# Altium schematic symbol library Resistors.SchLib: 6 symbols
Pins are listed as number, name and electrical type; pins without a type are passive.

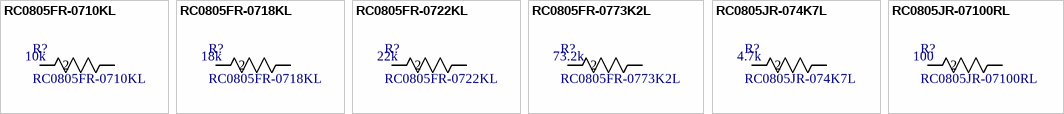
[diagram p0: symbols RC0805FR-0710KL to RC0805JR-07100RL]

## RC0805FR-0710KL
designator R?  value 10k
RES 0805 10k 1% 1/8W; Manufacturer_Name: Yageo; Manufacturer_Part_Number: RC0805FR-0710KL; Tolerance: 1%
footprint RC0805N_YAG
pins: 1, 2

## RC0805FR-0718KL
designator R?  value 18k
RES 0805 18k 1% 1/8W; Manufacturer_Name: Yageo; Manufacturer_Part_Number: RC0805FR-0718KL; Tolerance: 1%
footprint RC0805N_YAG
pins: 1, 2

## RC0805FR-0722KL
designator R?  value 22k
RES 0805 22k 1% 1/8W; Manufacturer_Name: Yageo; Manufacturer_Part_Number: RC0805FR-0722KL; Tolerance: 1%
footprint RC0805N_YAG
pins: 1, 2

## RC0805FR-0773K2L
designator R?  value 73.2k
RES 0805 73.2k 1% 1/8W; Manufacturer_Name: Yageo; Manufacturer_Part_Number: RC0805FR-0773K2L; Tolerance: 1%
footprint RC0805N_YAG
pins: 1, 2

## RC0805JR-074K7L
designator R?  value 4.7k
RES 0805 4.7k 5% 1/8W; Manufacturer_Name: Yageo; Manufacturer_Part_Number: RC0805JR-074K7L; Tolerance: 5%
footprint RC0805N_YAG
pins: 1, 2

## RC0805JR-07100RL
designator R?  value 100
RES 0805 100 5% 1/8W; Manufacturer_Name: Yageo; Manufacturer_Part_Number: RC0805JR-07100RL; Tolerance: 5%
footprint RC0805N_YAG
pins: 1, 2